# Altium schematic symbol library MFR-25FTE52-3K32.SchLib: 1 symbol
Pins are listed as number, name and electrical type; pins without a type are passive.

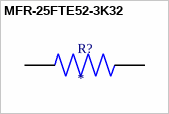
[diagram p0: symbol MFR-25FTE52-3K32]

## MFR-25FTE52-3K32
designator R?
MFR Series, Watts 1/4 1% Tolerance, 50 ppm/C TCR, Resistance 3.32K Tape/Box; MF: Yageo; MP: MFR-25FTE52-3K32; SnapEDA_Link: https://www.snapeda.com/parts/MFR-25FTE52-3K32/Yageo/view-part/?ref=snap; Package: RADIAL-2 YAGEO; Value: *; Check_prices: https://www.snapeda.com/parts/MFR-25FTE52-3K32/Yageo/view-part/?ref=eda
footprint RESAD1100W55L680D260
pins: 1, 2